# Altium integrated library Xilinx Spartan-3A.IntLib: 90 symbols (part 9 of 55)
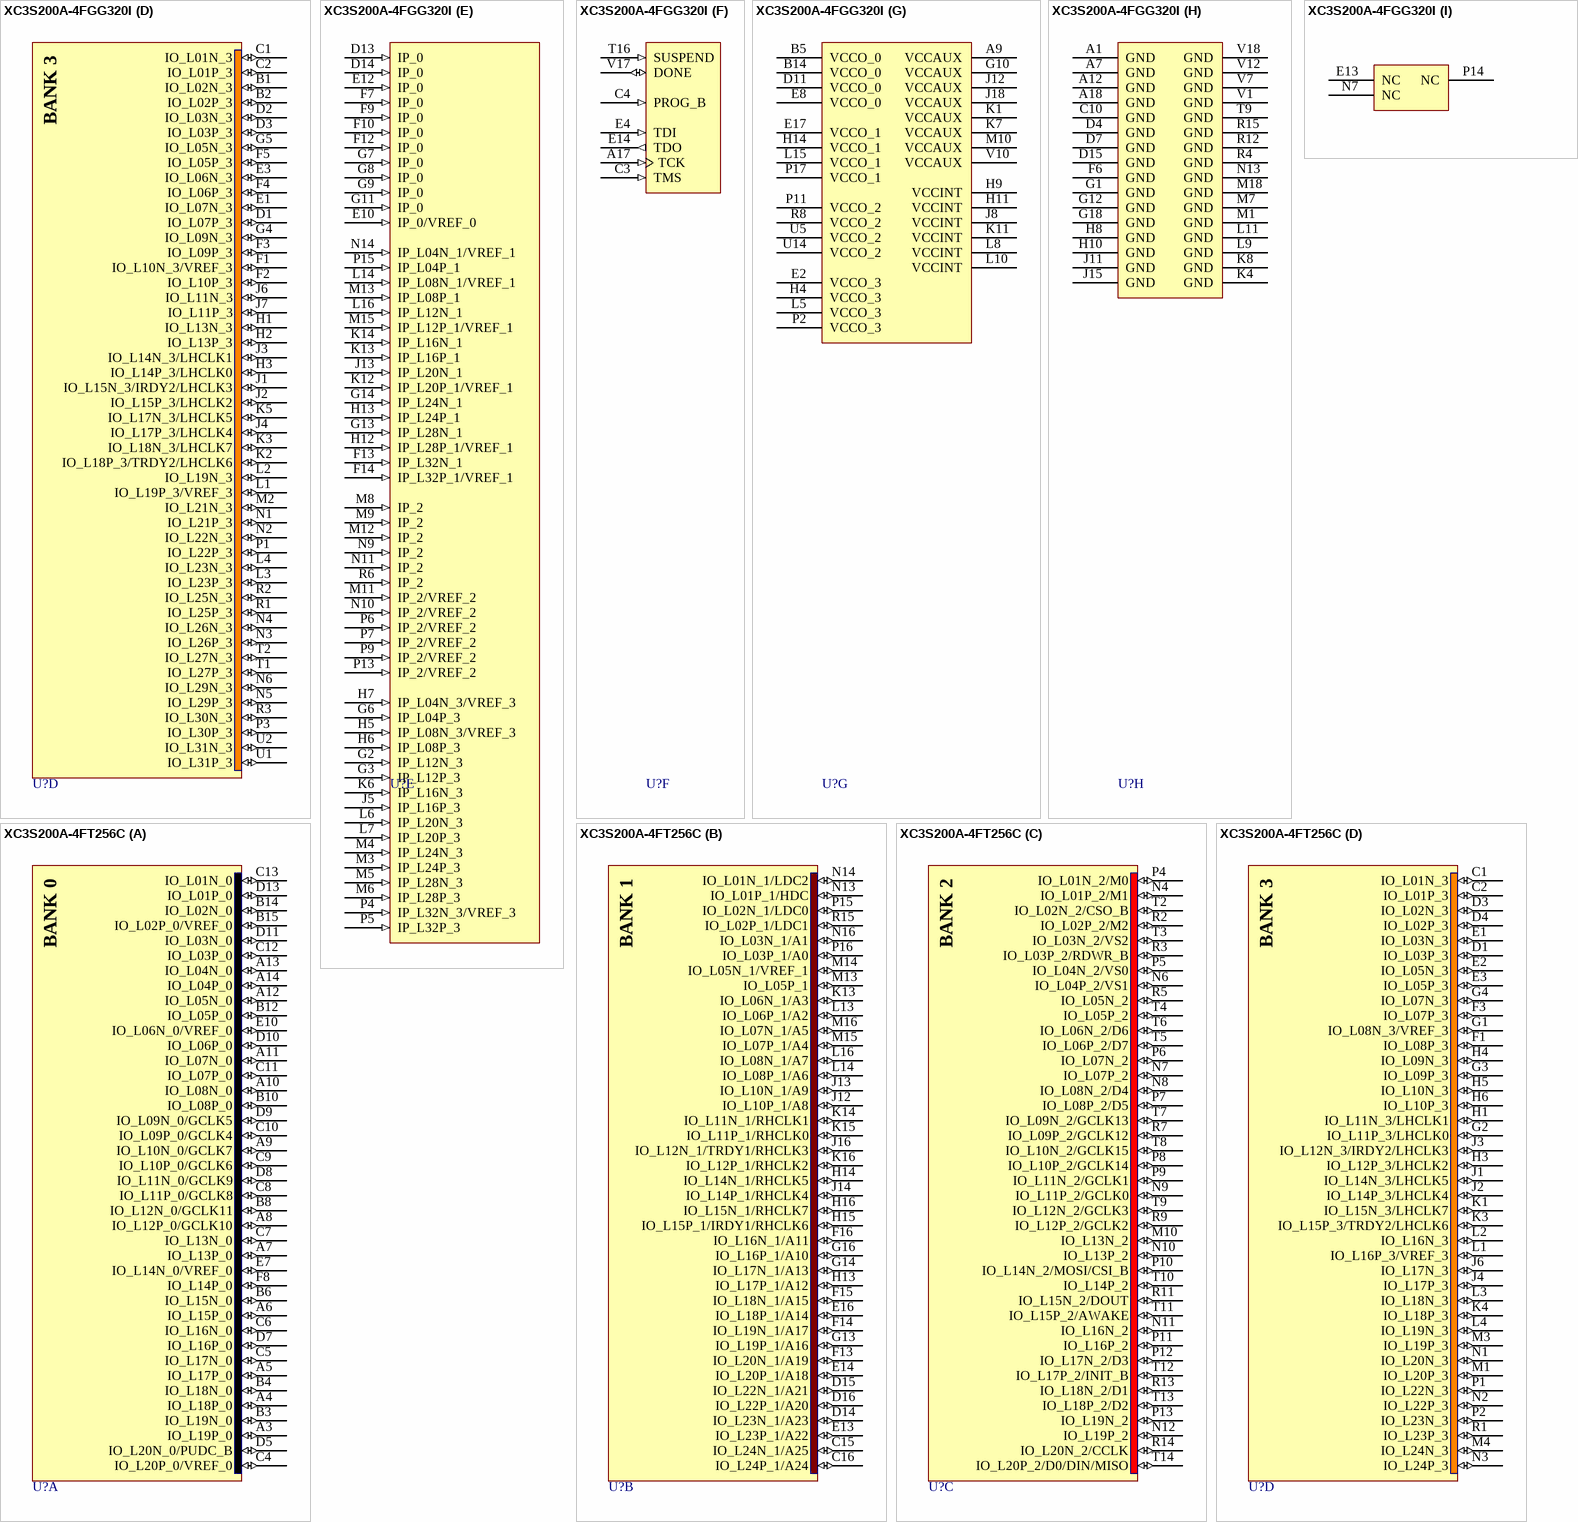
[diagram p104: symbols XC3S200A-4FGG320I to XC3S200A-4FT256C]

## XC3S200A-4FGG320I
designator U?
Spartan-3A I/O Optimized FPGA, 248 User I/Os, 320-Ball FBGA, Standard Performance, Industrial Grade, Pb-Free; DatasheetVersion: ver1.8, Mar-2009; PackageVersion: ver1.2.1, Mar-2005; PackageReference: FGG320; PackageDescription: 320-Ball Fine Pitch Ball Grid Array (FGG320) - Pb-Free; Code_JEDEC: MS-034-AAG-1; ComponentLink1Description: Manufacturer URL; ComponentLink1URL: http://www.xilinx.com/; ComponentLink2Description: Spartan-3A Datasheet; ComponentLink2URL: http://www.xilinx.com/support/documentation/data_sheets/ds529.pdf; ComponentLink3Description: FGG320 Package Drawing; ComponentLink3URL: http://www.xilinx.com/support/documentation/package_specs/fg320.pdf; ComponentLink4Description: Spartan-3A Documents; ComponentLink4URL: http://www.xilinx.com/support/documentation/spartan-3a.htm
footprint FGG320 (BGA, 320-Leads, Body 19x19mm, Pitch 1mm)
part A pins: A2 IO_L23N_0 (io) "Unrestricted, general-purpose user-I/O pin.", A3 IO_L21N_0 (io) "Unrestricted, general-purpose user-I/O pin.", A4 IO_L18N_0/VREF_0 (io) "Dual-purpose pin that is either a user-I/O pin or provides a reference voltage input.", A5 IO_L18P_0 (io) "Unrestricted, general-purpose user-I/O pin.", A6 IO_L17P_0 (io) "Unrestricted, general-purpose user-I/O pin.", A8 IO_L13P_0/GCLK8 (io) "Either a user-I/O pin or a global clock input.", A10 IO_L12P_0/GCLK6 (io) "Either a user-I/O pin or a global clock input.", A11 IO_L09N_0 (io) "Unrestricted, general-purpose user-I/O pin.", A13 IO_L06N_0/VREF_0 (io) "Dual-purpose pin that is either a user-I/O pin or provides a reference voltage input.", A14 IO_L03N_0 (io) "Unrestricted, general-purpose user-I/O pin.", A15 IO_L03P_0 (io) "Unrestricted, general-purpose user-I/O pin.", A16 IO_L02N_0 (io) "Unrestricted, general-purpose user-I/O pin.", B3 IO_L23P_0 (io) "Unrestricted, general-purpose user-I/O pin.", B4 IO_L21P_0 (io) "Unrestricted, general-purpose user-I/O pin.", B6 IO_L17N_0 (io) "Unrestricted, general-purpose user-I/O pin.", B7 IO_L13N_0/GCLK9 (io) "Either a user-I/O pin or a global clock input.", B8 IO_L14P_0/GCLK10 (io) "Either a user-I/O pin or a global clock input.", B9 IO_L12N_0/GCLK7 (io) "Either a user-I/O pin or a global clock input.", B10 IO_L11P_0/GCLK4 (io) "Either a user-I/O pin or a global clock input.", B11 IO_L09P_0 (io) "Unrestricted, general-purpose user-I/O pin.", B12 IO_L07N_0 (io) "Unrestricted, general-purpose user-I/O pin.", B13 IO_L06P_0 (io) "Unrestricted, general-purpose user-I/O pin.", B15 IO_L04P_0 (io) "Unrestricted, general-purpose user-I/O pin.", B16 IO_L02P_0/VREF_0 (io) "Dual-purpose pin that is either a user-I/O pin or provides a reference voltage input.", C5 IO_L22P_0 (io) "Unrestricted, general-purpose user-I/O pin.", C6 IO_L20P_0 (io) "Unrestricted, general-purpose user-I/O pin.", C7 IO_L15N_0 (io) "Unrestricted, general-purpose user-I/O pin.", C8 IO_L14N_0/GCLK11 (io) "Either a user-I/O pin or a global clock input.", C9 IO_L11N_0/GCLK5 (io) "Either a user-I/O pin or a global clock input.", C11 IO_L10P_0 (io) "Unrestricted, general-purpose user-I/O pin.", C12 IO_L07P_0 (io) "Unrestricted, general-purpose user-I/O pin.", C13 IO_L05P_0 (io) "Unrestricted, general-purpose user-I/O pin.", C14 IO_L04N_0 (io) "Unrestricted, general-purpose user-I/O pin.", C15 IO_L01N_0 (io) "Unrestricted, general-purpose user-I/O pin.", C16 IO_L01P_0 (io) "Unrestricted, general-purpose user-I/O pin.", D5 IO_L22N_0 (io) "Unrestricted, general-purpose user-I/O pin.", D6 IO_L20N_0 (io) "Unrestricted, general-purpose user-I/O pin.", D8 IO_L15P_0 (io) "Unrestricted, general-purpose user-I/O pin.", D9 IO_L16P_0 (io) "Unrestricted, general-purpose user-I/O pin.", D10 IO_L10N_0 (io) "Unrestricted, general-purpose user-I/O pin.", D12 IO_L05N_0 (io) "Unrestricted, general-purpose user-I/O pin.", E5 IO_L24N_0/PUDC_B (io) "Dual-purpose pin used in some configuration modes, and then usually available as a user-I/O.", E6 IO_L24P_0/VREF_0 (io) "Dual-purpose pin that is either a user-I/O pin or provides a reference voltage input.", E7 IO_L19N_0 (io) "Unrestricted, general-purpose user-I/O pin.", E9 IO_L16N_0 (io) "Unrestricted, general-purpose user-I/O pin.", E11 IO_L08P_0 (io) "Unrestricted, general-purpose user-I/O pin.", F8 IO_L19P_0 (io) "Unrestricted, general-purpose user-I/O pin.", F11 IO_L08N_0 (io) "Unrestricted, general-purpose user-I/O pin."
part B pins: B17 IO_L31N_1/A25 (io) "Dual-purpose pin used in some configuration modes, and then usually available as a user-I/O.", B18 IO_L30N_1/A23 (io) "Dual-purpose pin used in some configuration modes, and then usually available as a user-I/O.", C17 IO_L31P_1/A24 (io) "Dual-purpose pin used in some configuration modes, and then usually available as a user-I/O.", C18 IO_L30P_1/A22 (io) "Dual-purpose pin used in some configuration modes, and then usually available as a user-I/O.", D16 IO_L29P_1/A20 (io) "Dual-purpose pin used in some configuration modes, and then usually available as a user-I/O.", D17 IO_L25N_1 (io) "Unrestricted, general-purpose user-I/O pin.", D18 IO_L25P_1 (io) "Unrestricted, general-purpose user-I/O pin.", E15 IO_L29N_1/A21 (io) "Dual-purpose pin used in some configuration modes, and then usually available as a user-I/O.", E16 IO_L26N_1/A17 (io) "Dual-purpose pin used in some configuration modes, and then usually available as a user-I/O.", E18 IO_L22N_1/A13 (io) "Dual-purpose pin used in some configuration modes, and then usually available as a user-I/O.", F15 IO_L27N_1/A19 (io) "Dual-purpose pin used in some configuration modes, and then usually available as a user-I/O.", F16 IO_L26P_1/A16 (io) "Dual-purpose pin used in some configuration modes, and then usually available as a user-I/O.", F17 IO_L21N_1 (io) "Unrestricted, general-purpose user-I/O pin.", F18 IO_L22P_1/A12 (io) "Dual-purpose pin used in some configuration modes, and then usually available as a user-I/O.", G15 IO_L27P_1/A18 (io) "Dual-purpose pin used in some configuration modes, and then usually available as a user-I/O.", G16 IO_L19N_1/A11 (io) "Dual-purpose pin used in some configuration modes, and then usually available as a user-I/O.", G17 IO_L21P_1 (io) "Unrestricted, general-purpose user-I/O pin.", H15 IO_L23N_1/A15 (io) "Dual-purpose pin used in some configuration modes, and then usually available as a user-I/O.", H16 IO_L19P_1/A10 (io) "Dual-purpose pin used in some configuration modes, and then usually available as a user-I/O.", H17 IO_L18N_1/RHCLK7 (io) "Either a user-I/O pin or a global clock input for right half of device.", H18 IO_L18P_1/IRDY1/RHCLK6 (io) "Either a user-I/O pin or a global clock input for right half of device.", J14 IO_L23P_1/A14 (io) "Dual-purpose pin used in some configuration modes, and then usually available as a user-I/O.", J16 IO_L17P_1/RHCLK4 (io) "Either a user-I/O pin or a global clock input for right half of device.", J17 IO_L15N_1/TRDY1/RHCLK3 (io) "Either a user-I/O pin or a global clock input for right half of device.", K15 IO_L17N_1/RHCLK5 (io) "Either a user-I/O pin or a global clock input for right half of device.", K16 IO_L13N_1/A9 (io) "Dual-purpose pin used in some configuration modes, and then usually available as a user-I/O.", K17 IO_L14N_1/RHCLK1 (io) "Either a user-I/O pin or a global clock input for right half of device.", K18 IO_L15P_1/RHCLK2 (io) "Either a user-I/O pin or a global clock input for right half of device.", L12 IO_L11N_1/A7 (io) "Dual-purpose pin used in some configuration modes, and then usually available as a user-I/O.", L13 IO_L11P_1/A6 (io) "Dual-purpose pin used in some configuration modes, and then usually available as a user-I/O.", L17 IO_L13P_1/A8 (io) "Dual-purpose pin used in some configuration modes, and then usually available as a user-I/O.", L18 IO_L14P_1/RHCLK0 (io) "Either a user-I/O pin or a global clock input for right half of device.", M14 IO_L06N_1 (io) "Unrestricted, general-purpose user-I/O pin.", M16 IO_L09P_1/A2 (io) "Dual-purpose pin used in some configuration modes, and then usually available as a user-I/O.", M17 IO_L09N_1/A3 (io) "Dual-purpose pin used in some configuration modes, and then usually available as a user-I/O.", N15 IO_L06P_1 (io) "Unrestricted, general-purpose user-I/O pin.", N16 IO_L05N_1 (io) "Unrestricted, general-purpose user-I/O pin.", N17 IO_L10P_1/A4 (io) "Dual-purpose pin used in some configuration modes, and then usually available as a user-I/O.", N18 IO_L10N_1/A5 (io) "Dual-purpose pin used in some configuration modes, and then usually available as a user-I/O.", P16 IO_L05P_1 (io) "Unrestricted, general-purpose user-I/O pin.", P18 IO_L07N_1/VREF_1 (io) "Dual-purpose pin that is either a user-I/O pin or provides a reference voltage input.", R16 IO_L01P_1/HDC (io) "Dual-purpose pin used in some configuration modes, and then usually available as a user-I/O.", R17 IO_L03N_1/A1 (io) "Dual-purpose pin used in some configuration modes, and then usually available as a user-I/O.", R18 IO_L07P_1 (io) "Unrestricted, general-purpose user-I/O pin.", T17 IO_L01N_1/LDC2 (io) "Dual-purpose pin used in some configuration modes, and then usually available as a user-I/O.", T18 IO_L03P_1/A0 (io) "Dual-purpose pin used in some configuration modes, and then usually available as a user-I/O.", U17 IO_L02P_1/LDC1 (io) "Dual-purpose pin used in some configuration modes, and then usually available as a user-I/O.", U18 IO_L02N_1/LDC0 (io) "Dual-purpose pin used in some configuration modes, and then usually available as a user-I/O."
part C pins: N8 IO_L07P_2 (io) "Unrestricted, general-purpose user-I/O pin.", N12 IO_L19P_2 (io) "Unrestricted, general-purpose user-I/O pin.", P8 IO_L07N_2 (io) "Unrestricted, general-purpose user-I/O pin.", P10 IO_L15P_2 (io) "Unrestricted, general-purpose user-I/O pin.", P12 IO_L19N_2 (io) "Unrestricted, general-purpose user-I/O pin.", R5 IO_L04P_2 (io) "Unrestricted, general-purpose user-I/O pin.", R7 IO_L08P_2/D7 (io) "Dual-purpose pin used in some configuration modes, and then usually available as a user-I/O.", R9 IO_L09N_2 (io) "Unrestricted, general-purpose user-I/O pin.", R10 IO_L15N_2 (io) "Unrestricted, general-purpose user-I/O pin.", R11 IO_L16P_2 (io) "Unrestricted, general-purpose user-I/O pin.", R13 IO_L20N_2/D3 (io) "Dual-purpose pin used in some configuration modes, and then usually available as a user-I/O.", R14 IO_L23P_2 (io) "Unrestricted, general-purpose user-I/O pin.", T3 IO_L01P_2/M1 (io) "Dual-purpose pin used in some configuration modes, and then usually available as a user-I/O.", T4 IO_L03P_2/RDWR_B (io) "Dual-purpose pin used in some configuration modes, and then usually available as a user-I/O.", T5 IO_L04N_2 (io) "Unrestricted, general-purpose user-I/O pin.", T6 IO_L06P_2 (io) "Unrestricted, general-purpose user-I/O pin.", T7 IO_L08N_2/D6 (io) "Dual-purpose pin used in some configuration modes, and then usually available as a user-I/O.", T8 IO_L09P_2 (io) "Unrestricted, general-purpose user-I/O pin.", T10 IO_L13N_2/GCLK1 (io) "Either a user-I/O pin or a global clock input.", T11 IO_L16N_2/MOSI/CSI_B (io) "Dual-purpose pin used in some configuration modes, and then usually available as a user-I/O.", T12 IO_L18P_2/AWAKE (io) "Dual-Purpose pin. Used for the power-saving Suspend mode and user-I/O.", T13 IO_L20P_2/INIT_B (io) "Dual-purpose pin used in some configuration modes, and then usually available as a user-I/O.", T14 IO_L21N_2 (io) "Unrestricted, general-purpose user-I/O pin.", T15 IO_L23N_2 (io) "Unrestricted, general-purpose user-I/O pin.", U3 IO_L01N_2/M0 (io) "Dual-purpose pin used in some configuration modes, and then usually available as a user-I/O.", U4 IO_L03N_2/VS2 (io) "Dual-purpose pin used in some configuration modes, and then usually available as a user-I/O.", U6 IO_L06N_2 (io) "Unrestricted, general-purpose user-I/O pin.", U7 IO_L10P_2/D5 (io) "Dual-purpose pin used in some configuration modes, and then usually available as a user-I/O.", U8 IO_L11P_2/GCLK12 (io) "Either a user-I/O pin or a global clock input.", U9 IO_L12P_2/GCLK14 (io) "Either a user-I/O pin or a global clock input.", U10 IO_L13P_2/GCLK0 (io) "Either a user-I/O pin or a global clock input.", U11 IO_L14N_2/GCLK3 (io) "Either a user-I/O pin or a global clock input.", U12 IO_L17P_2 (io) "Unrestricted, general-purpose user-I/O pin.", U13 IO_L18N_2/DOUT (io) "Dual-purpose pin used in some configuration modes, and then usually available as a user-I/O.", U15 IO_L22N_2/D1 (io) "Dual-purpose pin used in some configuration modes, and then usually available as a user-I/O.", U16 IO_L24N_2/CCLK (io) "Dual-purpose pin used in some configuration modes, and then usually available as a user-I/O.", V2 IO_L02P_2/M2 (io) "Dual-purpose pin used in some configuration modes, and then usually available as a user-I/O.", V3 IO_L02N_2/CSO_B (io) "Dual-purpose pin used in some configuration modes, and then usually available as a user-I/O.", V4 IO_L05P_2/VS1 (io) "Dual-purpose pin used in some configuration modes, and then usually available as a user-I/O.", V5 IO_L05N_2/VS0 (io) "Dual-purpose pin used in some configuration modes, and then usually available as a user-I/O.", V6 IO_L10N_2/D4 (io) "Dual-purpose pin used in some configuration modes, and then usually available as a user-I/O.", V8 IO_L11N_2/GCLK13 (io) "Either a user-I/O pin or a global clock input.", V9 IO_L12N_2/GCLK15 (io) "Either a user-I/O pin or a global clock input.", V11 IO_L14P_2/GCLK2 (io) "Either a user-I/O pin or a global clock input.", V13 IO_L17N_2 (io) "Unrestricted, general-purpose user-I/O pin.", V14 IO_L21P_2 (io) "Unrestricted, general-purpose user-I/O pin.", V15 IO_L22P_2/D2 (io) "Dual-purpose pin used in some configuration modes, and then usually available as a user-I/O.", V16 IO_L24P_2/D0/DIN/MISO (io) "Dual-purpose pin used in some configuration modes, and then usually available as a user-I/O."
part D pins: B1 IO_L02N_3 (io) "Unrestricted, general-purpose user-I/O pin.", B2 IO_L02P_3 (io) "Unrestricted, general-purpose user-I/O pin.", C1 IO_L01N_3 (io) "Unrestricted, general-purpose user-I/O pin.", C2 IO_L01P_3 (io) "Unrestricted, general-purpose user-I/O pin.", D1 IO_L07P_3 (io) "Unrestricted, general-purpose user-I/O pin.", D2 IO_L03N_3 (io) "Unrestricted, general-purpose user-I/O pin.", D3 IO_L03P_3 (io) "Unrestricted, general-purpose user-I/O pin.", E1 IO_L07N_3 (io) "Unrestricted, general-purpose user-I/O pin.", E3 IO_L06N_3 (io) "Unrestricted, general-purpose user-I/O pin.", F1 IO_L10N_3/VREF_3 (io) "Dual-purpose pin that is either a user-I/O pin or provides a reference voltage input.", F2 IO_L10P_3 (io) "Unrestricted, general-purpose user-I/O pin.", F3 IO_L09P_3 (io) "Unrestricted, general-purpose user-I/O pin.", F4 IO_L06P_3 (io) "Unrestricted, general-purpose user-I/O pin.", F5 IO_L05P_3 (io) "Unrestricted, general-purpose user-I/O pin.", G4 IO_L09N_3 (io) "Unrestricted, general-purpose user-I/O pin.", G5 IO_L05N_3 (io) "Unrestricted, general-purpose user-I/O pin.", H1 IO_L13N_3 (io) "Unrestricted, general-purpose user-I/O pin.", H2 IO_L13P_3 (io) "Unrestricted, general-purpose user-I/O pin.", H3 IO_L14P_3/LHCLK0 (io) "Either a user-I/O pin or a global clock input for left half of device.", J1 IO_L15N_3/IRDY2/LHCLK3 (io) "Either a user-I/O pin or a global clock input for left half of device.", J2 IO_L15P_3/LHCLK2 (io) "Either a user-I/O pin or a global clock input for left half of device.", J3 IO_L14N_3/LHCLK1 (io) "Either a user-I/O pin or a global clock input for left half of device.", J4 IO_L17P_3/LHCLK4 (io) "Either a user-I/O pin or a global clock input for left half of device.", J6 IO_L11N_3 (io) "Unrestricted, general-purpose user-I/O pin.", J7 IO_L11P_3 (io) "Unrestricted, general-purpose user-I/O pin.", K2 IO_L18P_3/TRDY2/LHCLK6 (io) "Either a user-I/O pin or a global clock input for left half of device.", K3 IO_L18N_3/LHCLK7 (io) "Either a user-I/O pin or a global clock input for left half of device.", K5 IO_L17N_3/LHCLK5 (io) "Either a user-I/O pin or a global clock input for left half of device.", L1 IO_L19P_3/VREF_3 (io) "Dual-purpose pin that is either a user-I/O pin or provides a reference voltage input.", L2 IO_L19N_3 (io) "Unrestricted, general-purpose user-I/O pin.", L3 IO_L23P_3 (io) "Unrestricted, general-purpose user-I/O pin.", L4 IO_L23N_3 (io) "Unrestricted, general-purpose user-I/O pin.", M2 IO_L21N_3 (io) "Unrestricted, general-purpose user-I/O pin.", N1 IO_L21P_3 (io) "Unrestricted, general-purpose user-I/O pin.", N2 IO_L22N_3 (io) "Unrestricted, general-purpose user-I/O pin.", N3 IO_L26P_3 (io) "Unrestricted, general-purpose user-I/O pin.", N4 IO_L26N_3 (io) "Unrestricted, general-purpose user-I/O pin.", N5 IO_L29P_3 (io) "Unrestricted, general-purpose user-I/O pin.", N6 IO_L29N_3 (io) "Unrestricted, general-purpose user-I/O pin.", P1 IO_L22P_3 (io) "Unrestricted, general-purpose user-I/O pin.", P3 IO_L30P_3 (io) "Unrestricted, general-purpose user-I/O pin.", R1 IO_L25P_3 (io) "Unrestricted, general-purpose user-I/O pin.", R2 IO_L25N_3 (io) "Unrestricted, general-purpose user-I/O pin.", R3 IO_L30N_3 (io) "Unrestricted, general-purpose user-I/O pin.", T1 IO_L27P_3 (io) "Unrestricted, general-purpose user-I/O pin.", T2 IO_L27N_3 (io) "Unrestricted, general-purpose user-I/O pin.", U1 IO_L31P_3 (io) "Unrestricted, general-purpose user-I/O pin.", U2 IO_L31N_3 (io) "Unrestricted, general-purpose user-I/O pin."
part E pins: D13 IP_0 (in) "Unrestricted, general-purpose input-only pin.", D14 IP_0 (in) "Unrestricted, general-purpose input-only pin.", E10 IP_0/VREF_0 (in) "Dual-purpose pin that is either a Input-only pin, or provides a reference voltage input.", E12 IP_0 (in) "Unrestricted, general-purpose input-only pin.", F7 IP_0 (in) "Unrestricted, general-purpose input-only pin.", F9 IP_0 (in) "Unrestricted, general-purpose input-only pin.", F10 IP_0 (in) "Unrestricted, general-purpose input-only pin.", F12 IP_0 (in) "Unrestricted, general-purpose input-only pin.", F13 IP_L32N_1 (in) "Unrestricted, general-purpose input-only pin.", F14 IP_L32P_1/VREF_1 (in) "Dual-purpose pin that is either a Input-only pin, or provides a reference voltage input.", G2 IP_L12N_3 (in) "Unrestricted, general-purpose input-only pin.", G3 IP_L12P_3 (in) "Unrestricted, general-purpose input-only pin.", G6 IP_L04P_3 (in) "Unrestricted, general-purpose input-only pin.", G7 IP_0 (in) "Unrestricted, general-purpose input-only pin.", G8 IP_0 (in) "Unrestricted, general-purpose input-only pin.", G9 IP_0 (in) "Unrestricted, general-purpose input-only pin.", G11 IP_0 (in) "Unrestricted, general-purpose input-only pin.", G13 IP_L28N_1 (in) "Unrestricted, general-purpose input-only pin.", G14 IP_L24N_1 (in) "Unrestricted, general-purpose input-only pin.", H5 IP_L08N_3/VREF_3 (in) "Dual-purpose pin that is either a Input-only pin, or provides a reference voltage input.", H6 IP_L08P_3 (in) "Unrestricted, general-purpose input-only pin.", H7 IP_L04N_3/VREF_3 (in) "Dual-purpose pin that is either a Input-only pin, or provides a reference voltage input.", H12 IP_L28P_1/VREF_1 (in) "Dual-purpose pin that is either a Input-only pin, or provides a reference voltage input.", H13 IP_L24P_1 (in) "Unrestricted, general-purpose input-only pin.", J5 IP_L16P_3 (in) "Unrestricted, general-purpose input-only pin.", J13 IP_L20N_1 (in) "Unrestricted, general-purpose input-only pin.", K6 IP_L16N_3 (in) "Unrestricted, general-purpose input-only pin.", K12 IP_L20P_1/VREF_1 (in) "Dual-purpose pin that is either a Input-only pin, or provides a reference voltage input.", K13 IP_L16P_1 (in) "Unrestricted, general-purpose input-only pin.", K14 IP_L16N_1 (in) "Unrestricted, general-purpose input-only pin.", L6 IP_L20N_3 (in) "Unrestricted, general-purpose input-only pin.", L7 IP_L20P_3 (in) "Unrestricted, general-purpose input-only pin.", L14 IP_L08N_1/VREF_1 (in) "Dual-purpose pin that is either a Input-only pin, or provides a reference voltage input.", L16 IP_L12N_1 (in) "Unrestricted, general-purpose input-only pin.", M3 IP_L24P_3 (in) "Unrestricted, general-purpose input-only pin.", M4 IP_L24N_3 (in) "Unrestricted, general-purpose input-only pin.", M5 IP_L28N_3 (in) "Unrestricted, general-purpose input-only pin.", M6 IP_L28P_3 (in) "Unrestricted, general-purpose input-only pin.", M8 IP_2 (in) "Unrestricted, general-purpose input-only pin.", M9 IP_2 (in) "Unrestricted, general-purpose input-only pin.", M11 IP_2/VREF_2 (in) "Dual-purpose pin that is either a Input-only pin, or provides a reference voltage input.", M12 IP_2 (in) "Unrestricted, general-purpose input-only pin.", M13 IP_L08P_1 (in) "Unrestricted, general-purpose input-only pin.", M15 IP_L12P_1/VREF_1 (in) "Dual-purpose pin that is either a Input-only pin, or provides a reference voltage input.", N9 IP_2 (in) "Unrestricted, general-purpose input-only pin.", N10 IP_2/VREF_2 (in) "Dual-purpose pin that is either a Input-only pin, or provides a reference voltage input.", N11 IP_2 (in) "Unrestricted, general-purpose input-only pin.", N14 IP_L04N_1/VREF_1 (in) "Dual-purpose pin that is either a Input-only pin, or provides a reference voltage input.", P4 IP_L32N_3/VREF_3 (in) "Dual-purpose pin that is either a Input-only pin, or provides a reference voltage input.", P5 IP_L32P_3 (in) "Unrestricted, general-purpose input-only pin.", P6 IP_2/VREF_2 (in) "Dual-purpose pin that is either a Input-only pin, or provides a reference voltage input.", P7 IP_2/VREF_2 (in) "Dual-purpose pin that is either a Input-only pin, or provides a reference voltage input.", P9 IP_2/VREF_2 (in) "Dual-purpose pin that is either a Input-only pin, or provides a reference voltage input.", P13 IP_2/VREF_2 (in) "Dual-purpose pin that is either a Input-only pin, or provides a reference voltage input.", P15 IP_L04P_1 (in) "Unrestricted, general-purpose input-only pin.", R6 IP_2 (in) "Unrestricted, general-purpose input-only pin."
part F pins: A17 TCK (in) "Dedicated JTAG pin.", C3 TMS (in) "Dedicated JTAG pin.", C4 PROG_B (in) "Dedicated configuration pin.", E4 TDI (in) "Dedicated JTAG pin.", E14 TDO (out) "Dedicated JTAG pin.", T16 SUSPEND (in) "Dedicated pin for the power-saving Suspend mode.", V17 DONE (io) "Dedicated configuration pin."
part G pins: A9 VCCAUX (power) "Dedicated auxiliary power supply pin.", B5 VCCO_0 (power) "Supplies power to the output buffers within the I/O bank.", B14 VCCO_0 (power) "Supplies power to the output buffers within the I/O bank.", D11 VCCO_0 (power) "Supplies power to the output buffers within the I/O bank.", E2 VCCO_3 (power) "Supplies power to the output buffers within the I/O bank.", E8 VCCO_0 (power) "Supplies power to the output buffers within the I/O bank.", E17 VCCO_1 (power) "Supplies power to the output buffers within the I/O bank.", G10 VCCAUX (power) "Dedicated auxiliary power supply pin.", H4 VCCO_3 (power) "Supplies power to the output buffers within the I/O bank.", H9 VCCINT (power) "Dedicated internal core logic power supply pin.", H11 VCCINT (power) "Dedicated internal core logic power supply pin.", H14 VCCO_1 (power) "Supplies power to the output buffers within the I/O bank.", J8 VCCINT (power) "Dedicated internal core logic power supply pin.", J12 VCCAUX (power) "Dedicated auxiliary power supply pin.", J18 VCCAUX (power) "Dedicated auxiliary power supply pin.", K1 VCCAUX (power) "Dedicated auxiliary power supply pin.", K7 VCCAUX (power) "Dedicated auxiliary power supply pin.", K11 VCCINT (power) "Dedicated internal core logic power supply pin.", L5 VCCO_3 (power) "Supplies power to the output buffers within the I/O bank.", L8 VCCINT (power) "Dedicated internal core logic power supply pin.", L10 VCCINT (power) "Dedicated internal core logic power supply pin.", L15 VCCO_1 (power) "Supplies power to the output buffers within the I/O bank.", M10 VCCAUX (power) "Dedicated auxiliary power supply pin.", P2 VCCO_3 (power) "Supplies power to the output buffers within the I/O bank.", P11 VCCO_2 (power) "Supplies power to the output buffers within the I/O bank.", P17 VCCO_1 (power) "Supplies power to the output buffers within the I/O bank.", R8 VCCO_2 (power) "Supplies power to the output buffers within the I/O bank.", U5 VCCO_2 (power) "Supplies power to the output buffers within the I/O bank.", U14 VCCO_2 (power) "Supplies power to the output buffers within the I/O bank.", V10 VCCAUX (power) "Dedicated auxiliary power supply pin."
part H pins: A1 GND (power) "Dedicated ground pin.", A7 GND (power) "Dedicated ground pin.", A12 GND (power) "Dedicated ground pin.", A18 GND (power) "Dedicated ground pin.", C10 GND (power) "Dedicated ground pin.", D4 GND (power) "Dedicated ground pin.", D7 GND (power) "Dedicated ground pin.", D15 GND (power) "Dedicated ground pin.", F6 GND (power) "Dedicated ground pin.", G1 GND (power) "Dedicated ground pin.", G12 GND (power) "Dedicated ground pin.", G18 GND (power) "Dedicated ground pin.", H8 GND (power) "Dedicated ground pin.", H10 GND (power) "Dedicated ground pin.", J11 GND (power) "Dedicated ground pin.", J15 GND (power) "Dedicated ground pin.", K4 GND (power) "Dedicated ground pin.", K8 GND (power) "Dedicated ground pin.", L9 GND (power) "Dedicated ground pin.", L11 GND (power) "Dedicated ground pin.", M1 GND (power) "Dedicated ground pin.", M7 GND (power) "Dedicated ground pin.", M18 GND (power) "Dedicated ground pin.", N13 GND (power) "Dedicated ground pin.", R4 GND (power) "Dedicated ground pin.", R12 GND (power) "Dedicated ground pin.", R15 GND (power) "Dedicated ground pin.", T9 GND (power) "Dedicated ground pin.", V1 GND (power) "Dedicated ground pin.", V7 GND (power) "Dedicated ground pin.", V12 GND (power) "Dedicated ground pin.", V18 GND (power) "Dedicated ground pin."
part I pins: E13 NC "Not Connected", N7 NC "Not Connected", P14 NC "Not Connected"
part A text: BANK 0
part B text: BANK 1
part C text: BANK 2
part D text: BANK 3

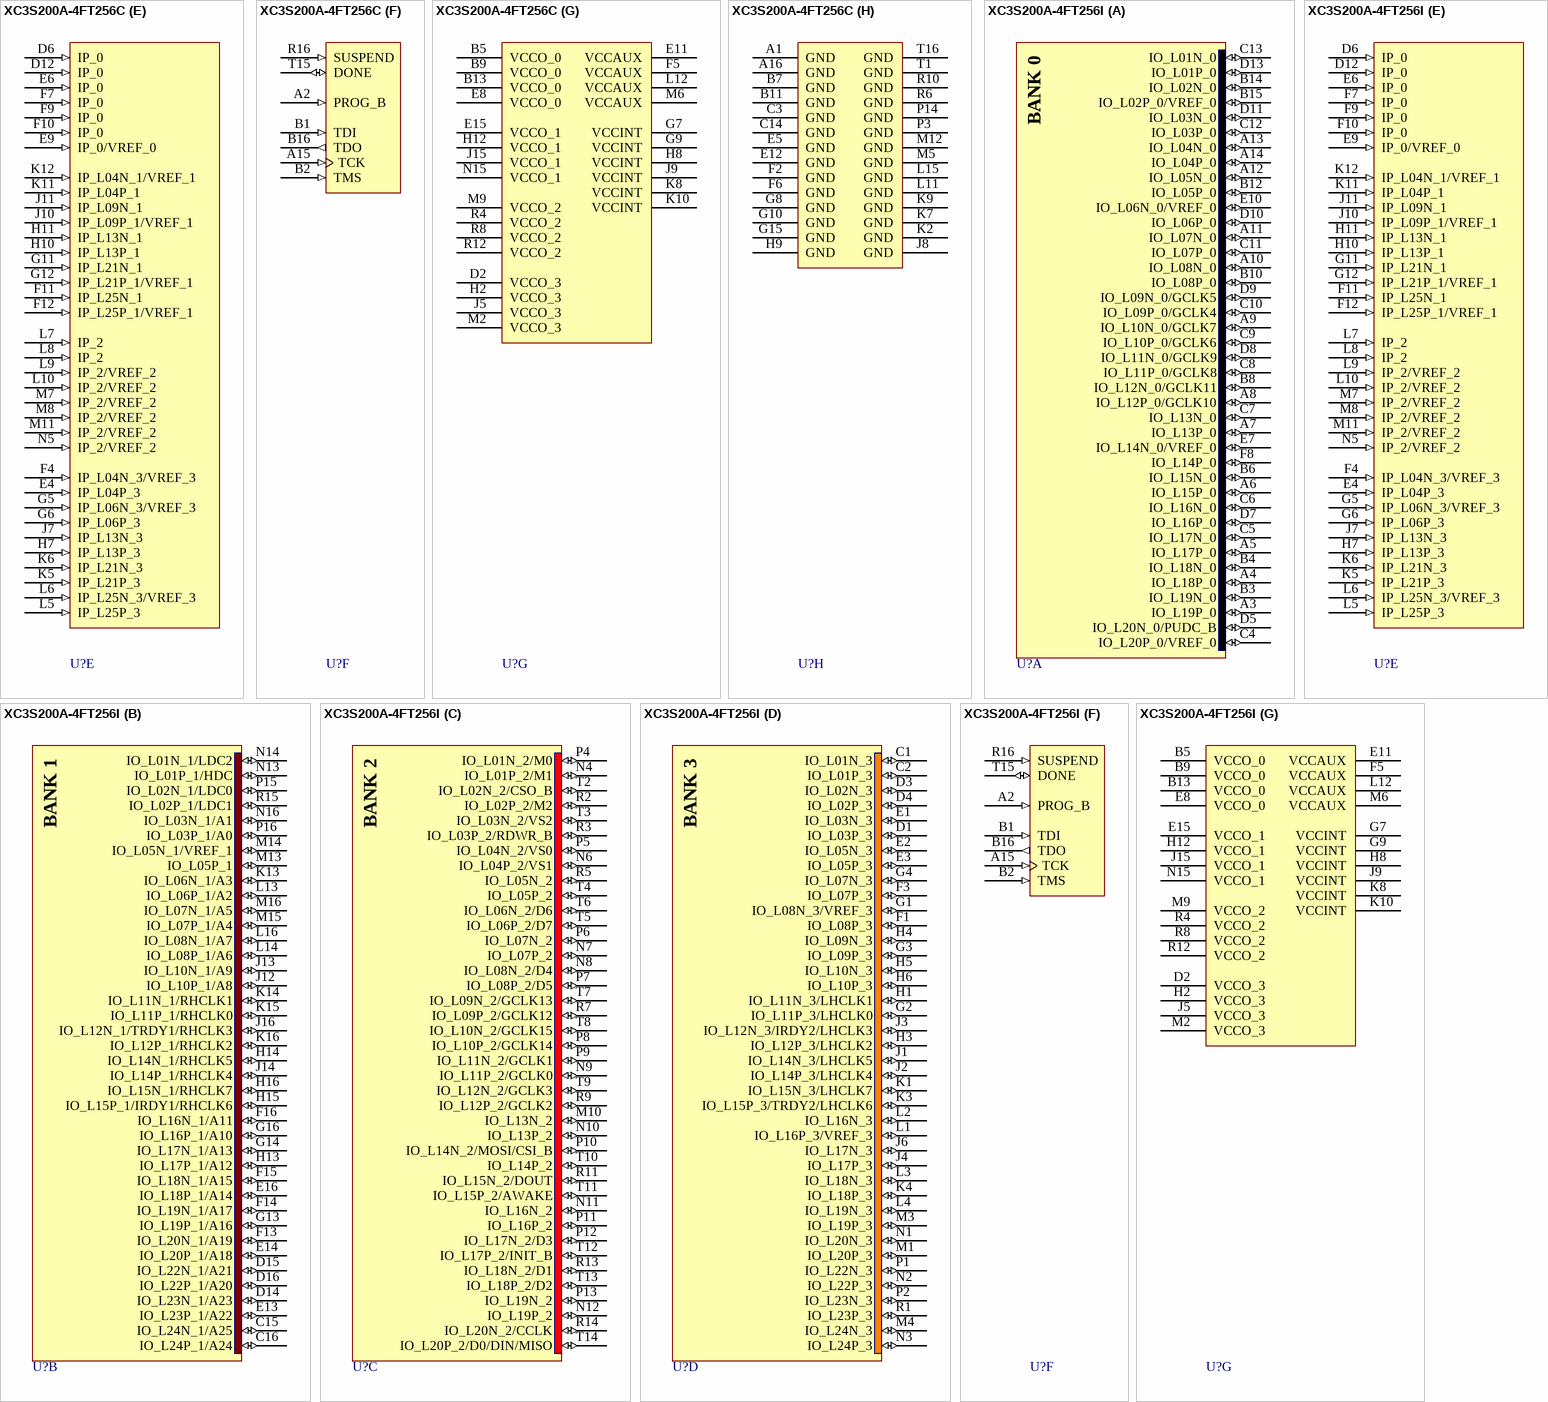
[diagram p17: symbols XC3S200A-4FT256C to XC3S200A-4FT256I]

## XC3S200A-4FT256C
designator U?
Spartan-3A I/O Optimized FPGA, 195 User I/Os, 256-Ball FTBGA, Standard Performance, Commercial Grade; DatasheetVersion: ver1.8, Mar-2009; PackageVersion: ver1.3, Oct-2007; PackageReference: FT256; PackageDescription: 256-Ball Fine Pitch Thin Ball Grid Array 1.00 mm Pitch (FT256); Code_JEDEC: MS-034-AAF-1*; ComponentLink1Description: Manufacturer URL; ComponentLink1URL: http://www.xilinx.com/; ComponentLink2Description: Spartan-3A Datasheet; ComponentLink2URL: http://www.xilinx.com/support/documentation/data_sheets/ds529.pdf; ComponentLink3Description: FT256 Package Drawing; ComponentLink3URL: http://www.xilinx.com/support/documentation/package_specs/ft256.pdf; ComponentLink4Description: Spartan-3A Documents; ComponentLink4URL: http://www.xilinx.com/support/documentation/spartan-3a.htm
footprint FT256 (BGA, 256-Leads, Body 17x17mm, Pitch 1mm)
part A pins: A3 IO_L19P_0 (io) "Unrestricted, general-purpose user-I/O pin.", A4 IO_L18P_0 (io) "Unrestricted, general-purpose user-I/O pin.", A5 IO_L17P_0 (io) "Unrestricted, general-purpose user-I/O pin.", A6 IO_L15P_0 (io) "Unrestricted, general-purpose user-I/O pin.", A7 IO_L13P_0 (io) "Unrestricted, general-purpose user-I/O pin.", A8 IO_L12P_0/GCLK10 (io) "Either a user-I/O pin or a global clock input.", A9 IO_L10N_0/GCLK7 (io) "Either a user-I/O pin or a global clock input.", A10 IO_L08N_0 (io) "Unrestricted, general-purpose user-I/O pin.", A11 IO_L07N_0 (io) "Unrestricted, general-purpose user-I/O pin.", A12 IO_L05N_0 (io) "Unrestricted, general-purpose user-I/O pin.", A13 IO_L04N_0 (io) "Unrestricted, general-purpose user-I/O pin.", A14 IO_L04P_0 (io) "Unrestricted, general-purpose user-I/O pin.", B3 IO_L19N_0 (io) "Unrestricted, general-purpose user-I/O pin.", B4 IO_L18N_0 (io) "Unrestricted, general-purpose user-I/O pin.", B6 IO_L15N_0 (io) "Unrestricted, general-purpose user-I/O pin.", B8 IO_L12N_0/GCLK11 (io) "Either a user-I/O pin or a global clock input.", B10 IO_L08P_0 (io) "Unrestricted, general-purpose user-I/O pin.", B12 IO_L05P_0 (io) "Unrestricted, general-purpose user-I/O pin.", B14 IO_L02N_0 (io) "Unrestricted, general-purpose user-I/O pin.", B15 IO_L02P_0/VREF_0 (io) "Dual-purpose pin that is either a user-I/O pin or provides a reference voltage input.", C4 IO_L20P_0/VREF_0 (io) "Dual-purpose pin that is either a user-I/O pin or provides a reference voltage input.", C5 IO_L17N_0 (io) "Unrestricted, general-purpose user-I/O pin.", C6 IO_L16N_0 (io) "Unrestricted, general-purpose user-I/O pin.", C7 IO_L13N_0 (io) "Unrestricted, general-purpose user-I/O pin.", C8 IO_L11P_0/GCLK8 (io) "Either a user-I/O pin or a global clock input.", C9 IO_L10P_0/GCLK6 (io) "Either a user-I/O pin or a global clock input.", C10 IO_L09P_0/GCLK4 (io) "Either a user-I/O pin or a global clock input.", C11 IO_L07P_0 (io) "Unrestricted, general-purpose user-I/O pin.", C12 IO_L03P_0 (io) "Unrestricted, general-purpose user-I/O pin.", C13 IO_L01N_0 (io) "Unrestricted, general-purpose user-I/O pin.", D5 IO_L20N_0/PUDC_B (io) "Dual-purpose pin used in some configuration modes, and then usually available as a user-I/O.", D7 IO_L16P_0 (io) "Unrestricted, general-purpose user-I/O pin.", D8 IO_L11N_0/GCLK9 (io) "Either a user-I/O pin or a global clock input.", D9 IO_L09N_0/GCLK5 (io) "Either a user-I/O pin or a global clock input.", D10 IO_L06P_0 (io) "Unrestricted, general-purpose user-I/O pin.", D11 IO_L03N_0 (io) "Unrestricted, general-purpose user-I/O pin.", D13 IO_L01P_0 (io) "Unrestricted, general-purpose user-I/O pin.", E7 IO_L14N_0/VREF_0 (io) "Dual-purpose pin that is either a user-I/O pin or provides a reference voltage input.", E10 IO_L06N_0/VREF_0 (io) "Dual-purpose pin that is either a user-I/O pin or provides a reference voltage input.", F8 IO_L14P_0 (io) "Unrestricted, general-purpose user-I/O pin."
part B pins: C15 IO_L24N_1/A25 (io) "Dual-purpose pin used in some configuration modes, and then usually available as a user-I/O.", C16 IO_L24P_1/A24 (io) "Dual-purpose pin used in some configuration modes, and then usually available as a user-I/O.", D14 IO_L23N_1/A23 (io) "Dual-purpose pin used in some configuration modes, and then usually available as a user-I/O.", D15 IO_L22N_1/A21 (io) "Dual-purpose pin used in some configuration modes, and then usually available as a user-I/O.", D16 IO_L22P_1/A20 (io) "Dual-purpose pin used in some configuration modes, and then usually available as a user-I/O.", E13 IO_L23P_1/A22 (io) "Dual-purpose pin used in some configuration modes, and then usually available as a user-I/O.", E14 IO_L20P_1/A18 (io) "Dual-purpose pin used in some configuration modes, and then usually available as a user-I/O.", E16 IO_L18P_1/A14 (io) "Dual-purpose pin used in some configuration modes, and then usually available as a user-I/O.", F13 IO_L20N_1/A19 (io) "Dual-purpose pin used in some configuration modes, and then usually available as a user-I/O.", F14 IO_L19N_1/A17 (io) "Dual-purpose pin used in some configuration modes, and then usually available as a user-I/O.", F15 IO_L18N_1/A15 (io) "Dual-purpose pin used in some configuration modes, and then usually available as a user-I/O.", F16 IO_L16N_1/A11 (io) "Dual-purpose pin used in some configuration modes, and then usually available as a user-I/O.", G13 IO_L19P_1/A16 (io) "Dual-purpose pin used in some configuration modes, and then usually available as a user-I/O.", G14 IO_L17N_1/A13 (io) "Dual-purpose pin used in some configuration modes, and then usually available as a user-I/O.", G16 IO_L16P_1/A10 (io) "Dual-purpose pin used in some configuration modes, and then usually available as a user-I/O.", H13 IO_L17P_1/A12 (io) "Dual-purpose pin used in some configuration modes, and then usually available as a user-I/O.", H14 IO_L14N_1/RHCLK5 (io) "Either a user-I/O pin or a global clock input for right half of device.", H15 IO_L15P_1/IRDY1/RHCLK6 (io) "Either a user-I/O pin or a global clock input for right half of device.", H16 IO_L15N_1/RHCLK7 (io) "Either a user-I/O pin or a global clock input for right half of device.", J12 IO_L10P_1/A8 (io) "Dual-purpose pin used in some configuration modes, and then usually available as a user-I/O.", J13 IO_L10N_1/A9 (io) "Dual-purpose pin used in some configuration modes, and then usually available as a user-I/O.", J14 IO_L14P_1/RHCLK4 (io) "Either a user-I/O pin or a global clock input for right half of device.", J16 IO_L12N_1/TRDY1/RHCLK3 (io) "Either a user-I/O pin or a global clock input for right half of device.", K13 IO_L06N_1/A3 (io) "Dual-purpose pin used in some configuration modes, and then usually available as a user-I/O.", K14 IO_L11N_1/RHCLK1 (io) "Either a user-I/O pin or a global clock input for right half of device.", K15 IO_L11P_1/RHCLK0 (io) "Either a user-I/O pin or a global clock input for right half of device.", K16 IO_L12P_1/RHCLK2 (io) "Either a user-I/O pin or a global clock input for right half of device.", L13 IO_L06P_1/A2 (io) "Dual-purpose pin used in some configuration modes, and then usually available as a user-I/O.", L14 IO_L08P_1/A6 (io) "Dual-purpose pin used in some configuration modes, and then usually available as a user-I/O.", L16 IO_L08N_1/A7 (io) "Dual-purpose pin used in some configuration modes, and then usually available as a user-I/O.", M13 IO_L05P_1 (io) "Unrestricted, general-purpose user-I/O pin.", M14 IO_L05N_1/VREF_1 (io) "Dual-purpose pin that is either a user-I/O pin or provides a reference voltage input.", M15 IO_L07P_1/A4 (io) "Dual-purpose pin used in some configuration modes, and then usually available as a user-I/O.", M16 IO_L07N_1/A5 (io) "Dual-purpose pin used in some configuration modes, and then usually available as a user-I/O.", N13 IO_L01P_1/HDC (io) "Dual-purpose pin used in some configuration modes, and then usually available as a user-I/O.", N14 IO_L01N_1/LDC2 (io) "Dual-purpose pin used in some configuration modes, and then usually available as a user-I/O.", N16 IO_L03N_1/A1 (io) "Dual-purpose pin used in some configuration modes, and then usually available as a user-I/O.", P15 IO_L02N_1/LDC0 (io) "Dual-purpose pin used in some configuration modes, and then usually available as a user-I/O.", P16 IO_L03P_1/A0 (io) "Dual-purpose pin used in some configuration modes, and then usually available as a user-I/O.", R15 IO_L02P_1/LDC1 (io) "Dual-purpose pin used in some configuration modes, and then usually available as a user-I/O."
part C pins: M10 IO_L13N_2 (io) "Unrestricted, general-purpose user-I/O pin.", N4 IO_L01P_2/M1 (io) "Dual-purpose pin used in some configuration modes, and then usually available as a user-I/O.", N6 IO_L04P_2/VS1 (io) "Dual-purpose pin used in some configuration modes, and then usually available as a user-I/O.", N7 IO_L07P_2 (io) "Unrestricted, general-purpose user-I/O pin.", N8 IO_L08N_2/D4 (io) "Dual-purpose pin used in some configuration modes, and then usually available as a user-I/O.", N9 IO_L11P_2/GCLK0 (io) "Either a user-I/O pin or a global clock input.", N10 IO_L13P_2 (io) "Unrestricted, general-purpose user-I/O pin.", N11 IO_L16N_2 (io) "Unrestricted, general-purpose user-I/O pin.", N12 IO_L19P_2 (io) "Unrestricted, general-purpose user-I/O pin.", P4 IO_L01N_2/M0 (io) "Dual-purpose pin used in some configuration modes, and then usually available as a user-I/O.", P5 IO_L04N_2/VS0 (io) "Dual-purpose pin used in some configuration modes, and then usually available as a user-I/O.", P6 IO_L07N_2 (io) "Unrestricted, general-purpose user-I/O pin.", P7 IO_L08P_2/D5 (io) "Dual-purpose pin used in some configuration modes, and then usually available as a user-I/O.", P8 IO_L10P_2/GCLK14 (io) "Either a user-I/O pin or a global clock input.", P9 IO_L11N_2/GCLK1 (io) "Either a user-I/O pin or a global clock input.", P10 IO_L14N_2/MOSI/CSI_B (io) "Dual-purpose pin used in some configuration modes, and then usually available as a user-I/O.", P11 IO_L16P_2 (io) "Unrestricted, general-purpose user-I/O pin.", P12 IO_L17N_2/D3 (io) "Dual-purpose pin used in some configuration modes, and then usually available as a user-I/O.", P13 IO_L19N_2 (io) "Unrestricted, general-purpose user-I/O pin.", R2 IO_L02P_2/M2 (io) "Dual-purpose pin used in some configuration modes, and then usually available as a user-I/O.", R3 IO_L03P_2/RDWR_B (io) "Dual-purpose pin used in some configuration modes, and then usually available as a user-I/O.", R5 IO_L05N_2 (io) "Unrestricted, general-purpose user-I/O pin.", R7 IO_L09P_2/GCLK12 (io) "Either a user-I/O pin or a global clock input.", R9 IO_L12P_2/GCLK2 (io) "Either a user-I/O pin or a global clock input.", R11 IO_L15N_2/DOUT (io) "Dual-purpose pin used in some configuration modes, and then usually available as a user-I/O.", R13 IO_L18N_2/D1 (io) "Dual-purpose pin used in some configuration modes, and then usually available as a user-I/O.", R14 IO_L20N_2/CCLK (io) "Dual-purpose pin used in some configuration modes, and then usually available as a user-I/O.", T2 IO_L02N_2/CSO_B (io) "Dual-purpose pin used in some configuration modes, and then usually available as a user-I/O.", T3 IO_L03N_2/VS2 (io) "Dual-purpose pin used in some configuration modes, and then usually available as a user-I/O.", T4 IO_L05P_2 (io) "Unrestricted, general-purpose user-I/O pin.", T5 IO_L06P_2/D7 (io) "Dual-purpose pin used in some configuration modes, and then usually available as a user-I/O.", T6 IO_L06N_2/D6 (io) "Dual-purpose pin used in some configuration modes, and then usually available as a user-I/O.", T7 IO_L09N_2/GCLK13 (io) "Either a user-I/O pin or a global clock input.", T8 IO_L10N_2/GCLK15 (io) "Either a user-I/O pin or a global clock input.", T9 IO_L12N_2/GCLK3 (io) "Either a user-I/O pin or a global clock input.", T10 IO_L14P_2 (io) "Unrestricted, general-purpose user-I/O pin.", T11 IO_L15P_2/AWAKE (io) "Dual-Purpose pin. Used for the power-saving Suspend mode and user-I/O.", T12 IO_L17P_2/INIT_B (io) "Dual-purpose pin used in some configuration modes, and then usually available as a user-I/O.", T13 IO_L18P_2/D2 (io) "Dual-purpose pin used in some configuration modes, and then usually available as a user-I/O.", T14 IO_L20P_2/D0/DIN/MISO (io) "Dual-purpose pin used in some configuration modes, and then usually available as a user-I/O."
part D pins: C1 IO_L01N_3 (io) "Unrestricted, general-purpose user-I/O pin.", C2 IO_L01P_3 (io) "Unrestricted, general-purpose user-I/O pin.", D1 IO_L03P_3 (io) "Unrestricted, general-purpose user-I/O pin.", D3 IO_L02N_3 (io) "Unrestricted, general-purpose user-I/O pin.", D4 IO_L02P_3 (io) "Unrestricted, general-purpose user-I/O pin.", E1 IO_L03N_3 (io) "Unrestricted, general-purpose user-I/O pin.", E2 IO_L05N_3 (io) "Unrestricted, general-purpose user-I/O pin.", E3 IO_L05P_3 (io) "Unrestricted, general-purpose user-I/O pin.", F1 IO_L08P_3 (io) "Unrestricted, general-purpose user-I/O pin.", F3 IO_L07P_3 (io) "Unrestricted, general-purpose user-I/O pin.", G1 IO_L08N_3/VREF_3 (io) "Dual-purpose pin that is either a user-I/O pin or provides a reference voltage input.", G2 IO_L11P_3/LHCLK0 (io) "Either a user-I/O pin or a global clock input for left half of device.", G3 IO_L09P_3 (io) "Unrestricted, general-purpose user-I/O pin.", G4 IO_L07N_3 (io) "Unrestricted, general-purpose user-I/O pin.", H1 IO_L11N_3/LHCLK1 (io) "Either a user-I/O pin or a global clock input for left half of device.", H3 IO_L12P_3/LHCLK2 (io) "Either a user-I/O pin or a global clock input for left half of device.", H4 IO_L09N_3 (io) "Unrestricted, general-purpose user-I/O pin.", H5 IO_L10N_3 (io) "Unrestricted, general-purpose user-I/O pin.", H6 IO_L10P_3 (io) "Unrestricted, general-purpose user-I/O pin.", J1 IO_L14N_3/LHCLK5 (io) "Either a user-I/O pin or a global clock input for left half of device.", J2 IO_L14P_3/LHCLK4 (io) "Either a user-I/O pin or a global clock input for left half of device.", J3 IO_L12N_3/IRDY2/LHCLK3 (io) "Either a user-I/O pin or a global clock input for left half of device.", J4 IO_L17P_3 (io) "Unrestricted, general-purpose user-I/O pin.", J6 IO_L17N_3 (io) "Unrestricted, general-purpose user-I/O pin.", K1 IO_L15N_3/LHCLK7 (io) "Either a user-I/O pin or a global clock input for left half of device.", K3 IO_L15P_3/TRDY2/LHCLK6 (io) "Either a user-I/O pin or a global clock input for left half of device.", K4 IO_L18P_3 (io) "Unrestricted, general-purpose user-I/O pin.", L1 IO_L16P_3/VREF_3 (io) "Dual-purpose pin that is either a user-I/O pin or provides a reference voltage input.", L2 IO_L16N_3 (io) "Unrestricted, general-purpose user-I/O pin.", L3 IO_L18N_3 (io) "Unrestricted, general-purpose user-I/O pin.", L4 IO_L19N_3 (io) "Unrestricted, general-purpose user-I/O pin.", M1 IO_L20P_3 (io) "Unrestricted, general-purpose user-I/O pin.", M3 IO_L19P_3 (io) "Unrestricted, general-purpose user-I/O pin.", M4 IO_L24N_3 (io) "Unrestricted, general-purpose user-I/O pin.", N1 IO_L20N_3 (io) "Unrestricted, general-purpose user-I/O pin.", N2 IO_L22P_3 (io) "Unrestricted, general-purpose user-I/O pin.", N3 IO_L24P_3 (io) "Unrestricted, general-purpose user-I/O pin.", P1 IO_L22N_3 (io) "Unrestricted, general-purpose user-I/O pin.", P2 IO_L23N_3 (io) "Unrestricted, general-purpose user-I/O pin.", R1 IO_L23P_3 (io) "Unrestricted, general-purpose user-I/O pin."
part E pins: D6 IP_0 (in) "Unrestricted, general-purpose input-only pin.", D12 IP_0 (in) "Unrestricted, general-purpose input-only pin.", E4 IP_L04P_3 (in) "Unrestricted, general-purpose input-only pin.", E6 IP_0 (in) "Unrestricted, general-purpose input-only pin.", E9 IP_0/VREF_0 (in) "Dual-purpose pin that is either a Input-only pin, or provides a reference voltage input.", F4 IP_L04N_3/VREF_3 (in) "Dual-purpose pin that is either a Input-only pin, or provides a reference voltage input.", F7 IP_0 (in) "Unrestricted, general-purpose input-only pin.", F9 IP_0 (in) "Unrestricted, general-purpose input-only pin.", F10 IP_0 (in) "Unrestricted, general-purpose input-only pin.", F11 IP_L25N_1 (in) "Unrestricted, general-purpose input-only pin.", F12 IP_L25P_1/VREF_1 (in) "Dual-purpose pin that is either a Input-only pin, or provides a reference voltage input.", G5 IP_L06N_3/VREF_3 (in) "Dual-purpose pin that is either a Input-only pin, or provides a reference voltage input.", G6 IP_L06P_3 (in) "Unrestricted, general-purpose input-only pin.", G11 IP_L21N_1 (in) "Unrestricted, general-purpose input-only pin.", G12 IP_L21P_1/VREF_1 (in) "Dual-purpose pin that is either a Input-only pin, or provides a reference voltage input.", H7 IP_L13P_3 (in) "Unrestricted, general-purpose input-only pin.", H10 IP_L13P_1 (in) "Unrestricted, general-purpose input-only pin.", H11 IP_L13N_1 (in) "Unrestricted, general-purpose input-only pin.", J7 IP_L13N_3 (in) "Unrestricted, general-purpose input-only pin.", J10 IP_L09P_1/VREF_1 (in) "Dual-purpose pin that is either a Input-only pin, or provides a reference voltage input.", J11 IP_L09N_1 (in) "Unrestricted, general-purpose input-only pin.", K5 IP_L21P_3 (in) "Unrestricted, general-purpose input-only pin.", K6 IP_L21N_3 (in) "Unrestricted, general-purpose input-only pin.", K11 IP_L04P_1 (in) "Unrestricted, general-purpose input-only pin.", K12 IP_L04N_1/VREF_1 (in) "Dual-purpose pin that is either a Input-only pin, or provides a reference voltage input.", L5 IP_L25P_3 (in) "Unrestricted, general-purpose input-only pin.", L6 IP_L25N_3/VREF_3 (in) "Dual-purpose pin that is either a Input-only pin, or provides a reference voltage input.", L7 IP_2 (in) "Unrestricted, general-purpose input-only pin.", L8 IP_2 (in) "Unrestricted, general-purpose input-only pin.", L9 IP_2/VREF_2 (in) "Dual-purpose pin that is either a Input-only pin, or provides a reference voltage input.", L10 IP_2/VREF_2 (in) "Dual-purpose pin that is either a Input-only pin, or provides a reference voltage input.", M7 IP_2/VREF_2 (in) "Dual-purpose pin that is either a Input-only pin, or provides a reference voltage input.", M8 IP_2/VREF_2 (in) "Dual-purpose pin that is either a Input-only pin, or provides a reference voltage input.", M11 IP_2/VREF_2 (in) "Dual-purpose pin that is either a Input-only pin, or provides a reference voltage input.", N5 IP_2/VREF_2 (in) "Dual-purpose pin that is either a Input-only pin, or provides a reference voltage input."
part F pins: A2 PROG_B (in) "Dedicated configuration pin.", A15 TCK (in) "Dedicated JTAG pin.", B1 TDI (in) "Dedicated JTAG pin.", B2 TMS (in) "Dedicated JTAG pin.", B16 TDO (out) "Dedicated JTAG pin.", R16 SUSPEND (in) "Dedicated pin for the power-saving Suspend mode.", T15 DONE (io) "Dedicated configuration pin."
part G pins: B5 VCCO_0 (power) "Supplies power to the output buffers within the I/O bank.", B9 VCCO_0 (power) "Supplies power to the output buffers within the I/O bank.", B13 VCCO_0 (power) "Supplies power to the output buffers within the I/O bank.", D2 VCCO_3 (power) "Supplies power to the output buffers within the I/O bank.", E8 VCCO_0 (power) "Supplies power to the output buffers within the I/O bank.", E11 VCCAUX (power) "Dedicated auxiliary power supply pin.", E15 VCCO_1 (power) "Supplies power to the output buffers within the I/O bank.", F5 VCCAUX (power) "Dedicated auxiliary power supply pin.", G7 VCCINT (power) "Dedicated internal core logic power supply pin.", G9 VCCINT (power) "Dedicated internal core logic power supply pin.", H2 VCCO_3 (power) "Supplies power to the output buffers within the I/O bank.", H8 VCCINT (power) "Dedicated internal core logic power supply pin.", H12 VCCO_1 (power) "Supplies power to the output buffers within the I/O bank.", J5 VCCO_3 (power) "Supplies power to the output buffers within the I/O bank.", J9 VCCINT (power) "Dedicated internal core logic power supply pin.", J15 VCCO_1 (power) "Supplies power to the output buffers within the I/O bank.", K8 VCCINT (power) "Dedicated internal core logic power supply pin.", K10 VCCINT (power) "Dedicated internal core logic power supply pin.", L12 VCCAUX (power) "Dedicated auxiliary power supply pin.", M2 VCCO_3 (power) "Supplies power to the output buffers within the I/O bank.", M6 VCCAUX (power) "Dedicated auxiliary power supply pin.", M9 VCCO_2 (power) "Supplies power to the output buffers within the I/O bank.", N15 VCCO_1 (power) "Supplies power to the output buffers within the I/O bank.", R4 VCCO_2 (power) "Supplies power to the output buffers within the I/O bank.", R8 VCCO_2 (power) "Supplies power to the output buffers within the I/O bank.", R12 VCCO_2 (power) "Supplies power to the output buffers within the I/O bank."
part H pins: A1 GND (power) "Dedicated ground pin.", A16 GND (power) "Dedicated ground pin.", B7 GND (power) "Dedicated ground pin.", B11 GND (power) "Dedicated ground pin.", C3 GND (power) "Dedicated ground pin.", C14 GND (power) "Dedicated ground pin.", E5 GND (power) "Dedicated ground pin.", E12 GND (power) "Dedicated ground pin.", F2 GND (power) "Dedicated ground pin.", F6 GND (power) "Dedicated ground pin.", G8 GND (power) "Dedicated ground pin.", G10 GND (power) "Dedicated ground pin.", G15 GND (power) "Dedicated ground pin.", H9 GND (power) "Dedicated ground pin.", J8 GND (power) "Dedicated ground pin.", K2 GND (power) "Dedicated ground pin.", K7 GND (power) "Dedicated ground pin.", K9 GND (power) "Dedicated ground pin.", L11 GND (power) "Dedicated ground pin.", L15 GND (power) "Dedicated ground pin.", M5 GND (power) "Dedicated ground pin.", M12 GND (power) "Dedicated ground pin.", P3 GND (power) "Dedicated ground pin.", P14 GND (power) "Dedicated ground pin.", R6 GND (power) "Dedicated ground pin.", R10 GND (power) "Dedicated ground pin.", T1 GND (power) "Dedicated ground pin.", T16 GND (power) "Dedicated ground pin."
part A text: BANK 0
part B text: BANK 1
part C text: BANK 2
part D text: BANK 3

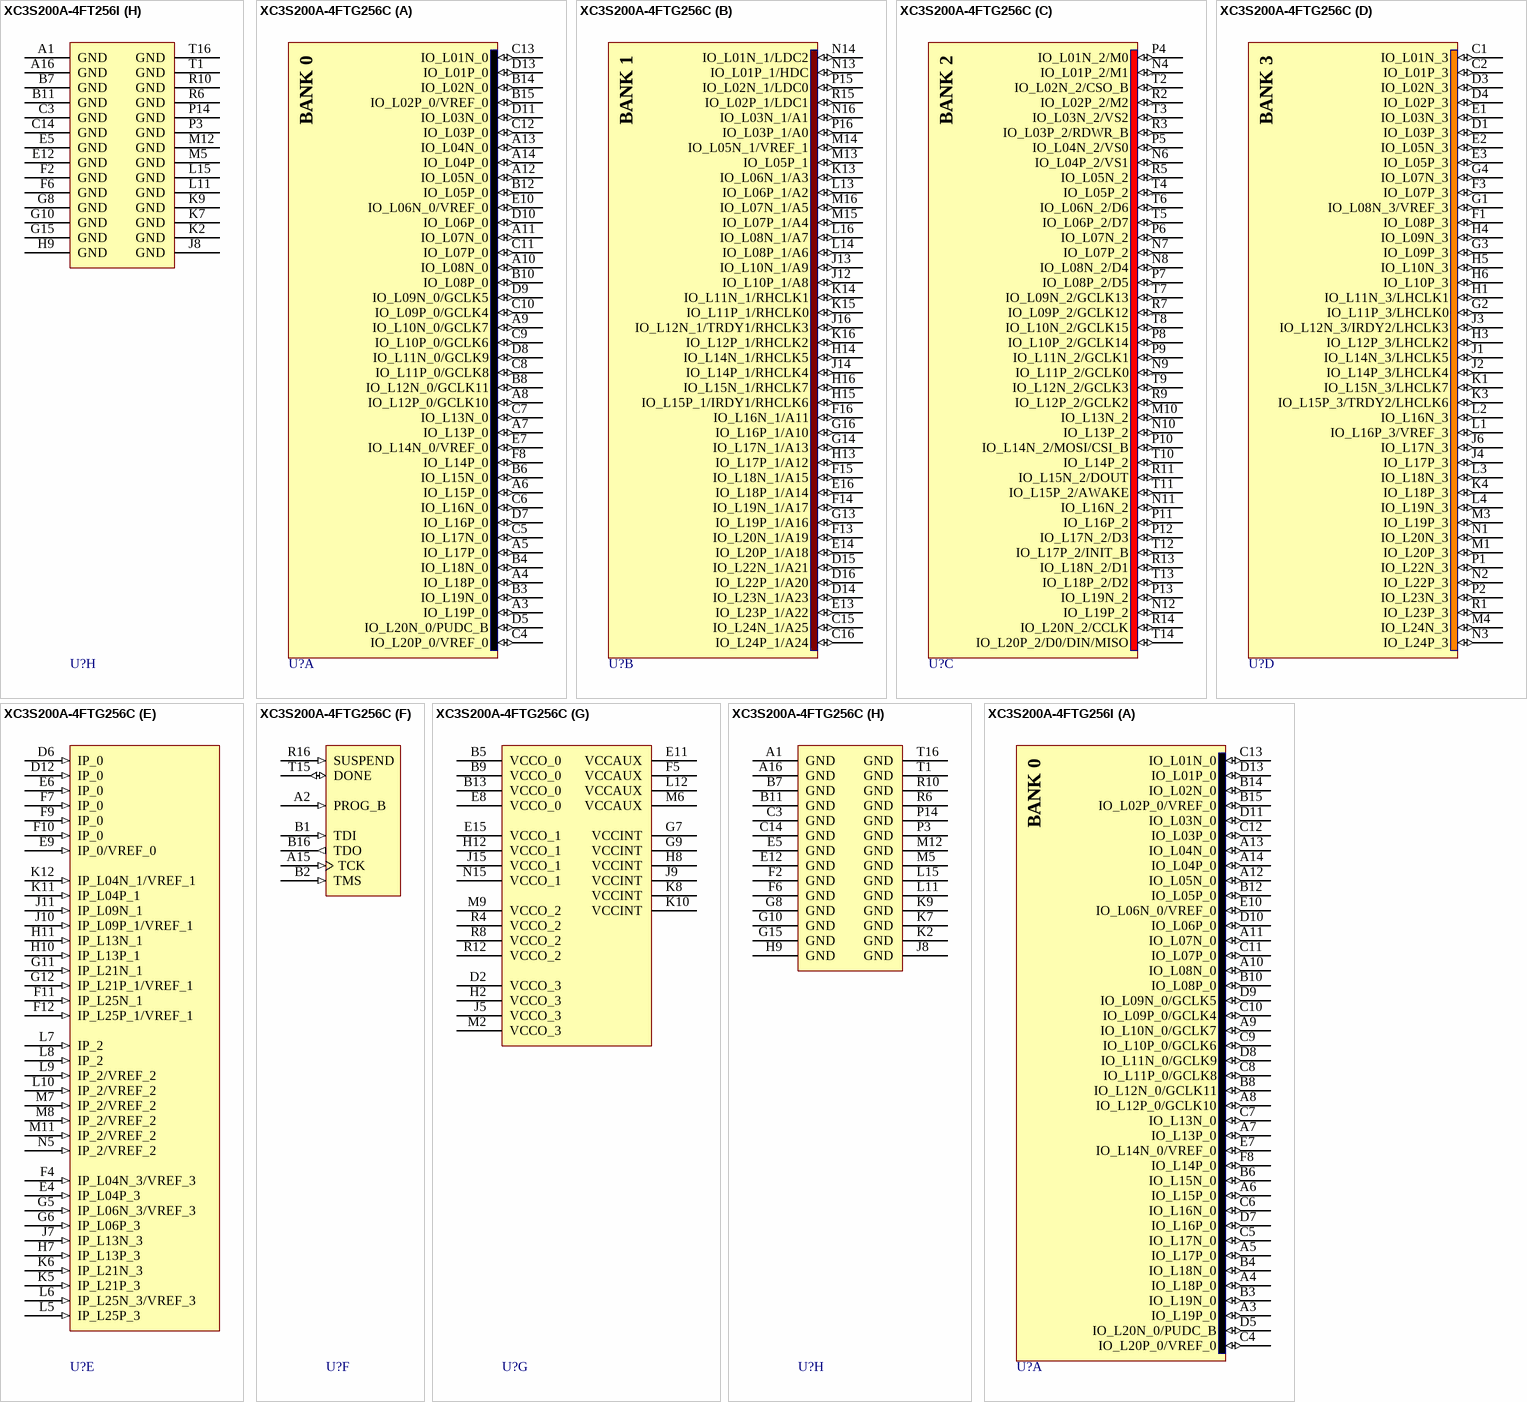
[diagram p18: symbols XC3S200A-4FT256I to XC3S200A-4FTG256I]